# Altium schematic symbol library DIODE_ARR_10N_1.SchLib: 1 symbol
Pins are listed as number, name and electrical type; pins without a type are passive.

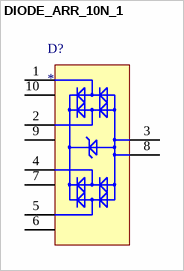
[diagram p0: symbol DIODE_ARR_10N_1]

## DIODE_ARR_10N_1
designator D?
pins: 1, 2, 3, 4, 5, 6, 7, 8, 9, 10